# EAGLE library part LTC1440 (library balloon)
LTC1440 - Ultralow Power Single / Dual Comparator With reference.
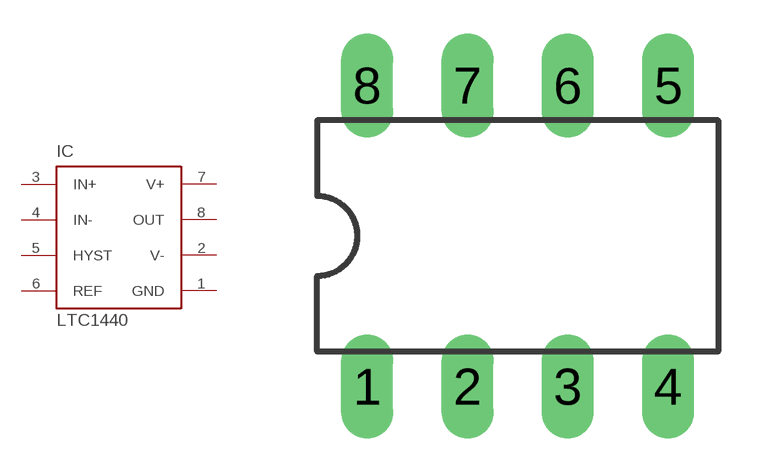
[diagram p0: symbol with the pads of PDIP8; footprint PDIP8]

Designator prefix IC

## LTC1440IN8  [PDIP8]
1  GND  pwr
2  V-
3  IN+  in
4  IN-
5  HYST
6  REF
7  V+  in
8  OUT  out

## Footprint PDIP8 (pad centres in mm)
drill 0.813 long: 1 -3.81,-3.81; 2 -1.27,-3.81; 3 1.27,-3.81; 4 3.81,-3.81; 5 3.81,3.81; 6 1.27,3.81; 7 -1.27,3.81; 8 -3.81,3.81